# EAGLE library part FDMA1024NZ (library power)
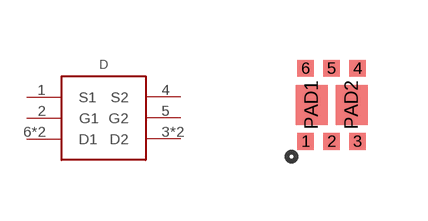
[diagram p8: symbol with the pads of MICROFET2X2; footprint MICROFET2X2]

Designator prefix D

## FDMA1024NZ  [MICROFET2X2]
1  S1
2  G1
3  D2
4  S2
5  G2
6  D1
PAD1  D1
PAD2  D2

## Footprint MICROFET2X2 (pad centres in mm)
smd 0.42 x 0.42: 1 -0.65,-0.915; 2 0,-0.915; 3 0.65,-0.915; 4 0.65,0.915; 5 0,0.915; 6 -0.65,0.915
smd 0.8 x 1: PAD1 -0.5,0; PAD2 0.5,0